# EAGLE library part REF200AU (library REF200)
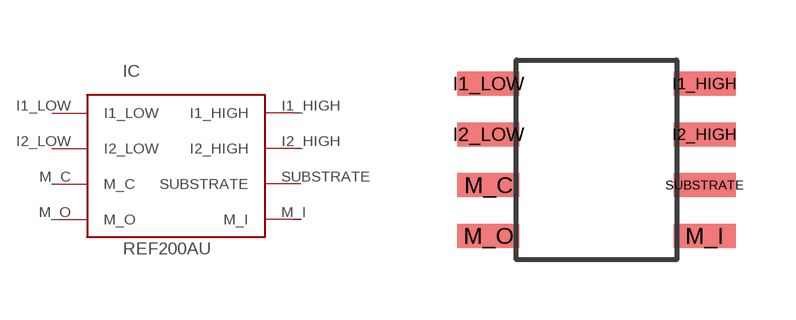
[diagram p0: symbol with the pads of SOIC(8); footprint SOIC(8)]

Designator prefix IC

## REF200AU  [SOIC(8)]
I1_HIGH  I1_HIGH
I1_LOW  I1_LOW
I2_HIGH  I2_HIGH
I2_LOW  I2_LOW
M_C  M_C
M_I  M_I
M_O  M_O
SUBSTRATE  SUBSTRATE

## Footprint SOIC(8) (pad centres in mm)
smd 1.55 x 0.6: I1_HIGH 2.7,1.905; I1_LOW -2.7,1.905; I2_HIGH 2.7,0.635; I2_LOW -2.7,0.635; M_C -2.7,-0.635; M_I 2.7,-1.905; M_O -2.7,-1.905; SUBSTRATE 2.7,-0.635